# Altium footprint library JACK.PcbLib: 9 footprints
Each footprint in its own frame and in the unit in brackets; x right, y up, seen from the top. Pads: shape width x height; smd on the part's side, far side on the other; paste and mask are expansions set on the pad; w line width, h text height; cw(c..) or ccw(c..) is an arc to the next point about the centre after c.
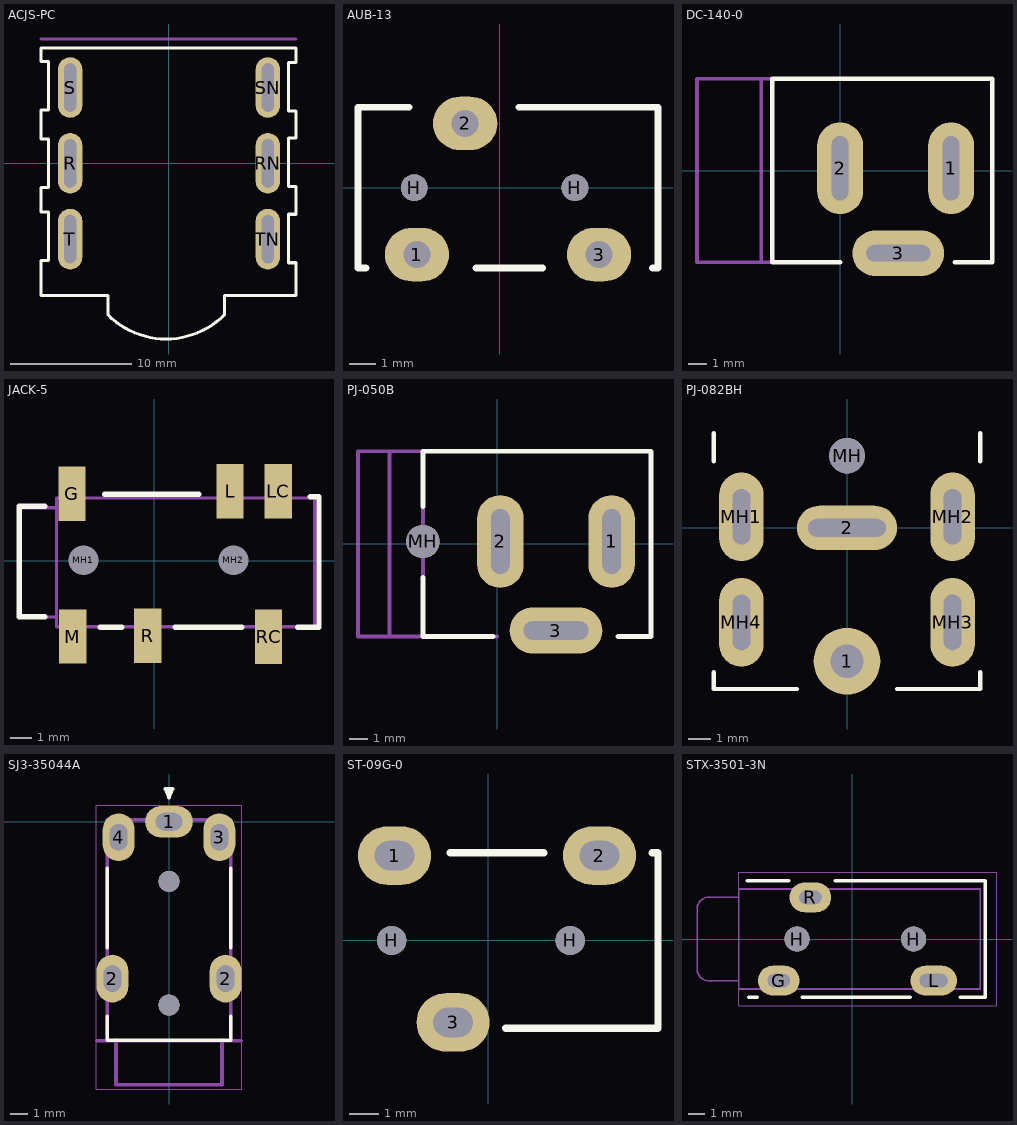
[diagram p0: the footprints below, top view; thin cyan lines are the x and y axes]

## ACJS-PC [mm] "Stereo jack socket 6mm"
height 16
pads (6):
  oval 2x5 hole 1 slot 4 at 90 deg: R(-8.112,-0.002) RN(8.188,-0.002) S(-8.112,6.248) SN(8.188,6.248) T(-8.112,-6.252) TN(8.188,-6.252)
Top Overlay:
  lines w0.254: -10.5,-10.9 -10.5,-8 -9.9,-8 -9.9,-4 -10.5,-4 -10.5,-2 -9.9,-2 -9.9,2 -10.5,2 -10.5,4.4 -9.9,4.4 -9.9,8.4 -10.5,8.4 -10.5,9.5 10.5,9.5 10.5,8.3 9.9,8.3 9.9,4.3 10.5,4.3 10.5,2.1 9.9,2.1 9.9,-1.9 10.5,-1.9 10.5,-4.2 9.9,-4.2 9.9,-8.2 10.5,-8.2 10.5,-10.9 4.6,-10.9 4.6,-12.5 cw(c-0.2,-7.7) -5,-12.5 -5,-10.9 -10.5,-10.9
Mechanical 15:
  lines w0.254: -10.5,10.248 10.5,10.248
3D body "User Library-ACJS-IH.step": height 18.85, standoff -1, extent -9.9,-14.225 10.1,18.625

## AUB-13 [mm] "Stereo jack socket 3,5mm"
height 5.6
pads (5):
  oval 2.4x2 hole 1: 1(-3.1,-2.5) 2(-1.3,2.4) 3(3.7,-2.5)
  round 1 hole 1 unplated: H(-3.2,0) H(2.8,0)
Top Overlay:
  lines w0.254: -5,-3 -5.3,-3 -5.3,3 -3.4,3 ; -0.9,-3 1.6,-3 ; 0.7,3 5.9,3 5.9,-3 5.7,-3
3D body "User Library-1501-03.step": height 4.25, standoff -2.5, extent -6.3,-2.5 4.7,2.5

## DC-140-0 [mm]
pads (3):
  oval 2.5x5 hole 0.9 slot 3.5 at 90 deg: 1(6.05,0.127) 2(0,0.127)
  oval 5x2.5 hole 0.9 slot 3.5 at 0 deg: 3(3.175,-4.5)
Top Overlay:
  lines w0.254: 0,-5 -1.75,-5 -3.7,-5 -3.7,5 -1.75,5 8.3,5 8.3,-5 6.25,-5
Mechanical 15:
  lines w0.2: -4.3,-5 -4.3,0 -4.3,5 ; -1.7,5 -7.8,5 -7.8,-5 0,-5
3D body "User Library-Cliff FC68149 DC PCB Socket.step": height 11, standoff -3.5, extent -7.515,-4.875 6.985,4.875

## JACK-5 [mm] "Stereo + MIC jack socket 3,5mm"
height 5.6
pads (8):
  rect 1.27x2.54 smd: G(-3.832,3.132) L(3.548,3.242) LC(5.798,3.242) M(-3.792,-3.533) R(-0.292,-3.498) RC(5.348,-3.538)
  round 1 hole 1.4 unplated: MH1(-3.302,0.027) MH2(3.698,0.027)
Top Overlay:
  lines w0.254: -5.1,-2.6 -6.3,-2.6 -6.3,2.55 -5.1,2.55 ; -2.5,-3.1 -1.5,-3.1 ; -2.3,3.1 2.1,3.1 ; 1,-3.1 4.1,-3.1 ; 6.7,-3.1 7.7,-3.1 7.7,3 7.3,3
Mechanical 15:
  lines w0.152: 7.418,2.929 -4.554,2.929 -4.554,2.475 ; 7.498,2.929 7.5,2.929 7.5,-3.075 -4.554,-3.075 -4.554,-2.621 ; -4.554,-2.621 -6.302,-2.621 -6.302,2.475 -4.554,2.475 ; -4.554,-2.621 -4.554,2.475
3D body "User Library-3_5mm jack st3500.step": height 5.5, standoff -0.5, extent -9.3,-4.6 7.7,4.4

## PJ-050B [mm] "DC POWER JACK"
height 11
pads (4):
  oval 2.5x5 hole 1 slot 3.5 at 90 deg: 1(6.175,0.127) 2(0.175,0.127)
  oval 5x2.5 hole 1 slot 3.5 at 0 deg: 3(3.175,-4.673)
  round 1.8 hole 1.8 unplated: MH(-4,0.127)
Top Overlay:
  lines w0.254: -4,-1.8 -4,-5 -0.2,-5 ; -4,2 -4,5 -1.75,5 8.3,5 8.3,-5 6.5,-5
Mechanical 15:
  lines w0.2: -5.8,-5 -5.8,5 ; -4,-4.9 -4,5 ; -1.7,5 -7.5,5 -7.5,-5 0,-5
3D body "User Library-Cliff FC68149 DC PCB Socket.step": height 11, standoff -3.5, extent -7.515,-4.875 6.985,4.875

## PJ-082BH [mm] "24V 10A"
height 10
pads (7):
  round 3 hole 1.5: 1(0,-6)
  oval 4.5x2 hole 0.8 slot 3.5 at 0 deg: 2(0,0)
  round 1.6 hole 1.6 unplated: MH(0,3.25)
  oval 2x4 hole 0.8 slot 2.5 at 90 deg: MH1(-4.75,0.5) MH2(4.75,0.5) MH3(4.75,-4.25) MH4(-4.75,-4.25)
Top Overlay:
  lines w0.2: -6,-6.5 -6,-7.25 -2.25,-7.25 ; -6,3 -6,4.25 ; 2.25,-7.25 6,-7.25 6,-6.5 ; 6,3 6,4.25
3D body "pj-082bh.stp": height 10.15, standoff -2.05, extent -5.1,-7 5.1,6.13

## SJ3-35044A [mm]
height 6.3
pads (7):
  oval 2.7x1.8 hole 1 slot 1.5 at 0 deg mask+0.102: 1(0,0)
  oval 1.8x2.7 hole 1 slot 1.5 at 90 deg mask+0.102: 2(-3.2,-8.88) 2(3.2,-8.88) 3(2.85,-0.88) 4(-2.85,-0.88)
  round 1.2 hole 1.2 unplated mask+0: ""(0,-10.38) ""(0,-3.38)
Top Overlay:
  lines w0.2: -3.5,-11 -3.5,-12.38 3.5,-12.38 3.5,-11 ; -3.5,-7.13 -3.5,-2.63 ; 0.1,1.6 -0.2,1.85 ; 3.5,-7.13 3.5,-2.63 ; -0.2,1.85 0.2,1.85 0,1.35 -0.2,1.85
Mechanical 13 (Mech13):
  lines w0.127: -3.5,-12.38 -3,-12.38 3,-12.38 3.5,-12.38
  lines w0.2: -4.1,-12.4 4.1,-12.4 ; -3.5,-12.38 -3.5,0.12 3.5,0.12 3.5,-12.38 ; -3,-12.38 -3,-14.88 3,-14.88 3,-12.38
Mechanical 15 (Mech15):
  lines w0.05: -4.125,-15.13 4.125,-15.13 4.125,0.925 -4.125,0.925 -4.125,-15.13
3D body "step_temp.STEP": height 6.02, standoff -2.58, extent -3.898,-14.9 3.9,0.1

## ST-09G-0 [mm] "Stereo jack socket 3,5mm"
height 5
pads (5):
  oval 2.5x2 hole 1 slot 1.35 at 0 deg: 1(-3.2,2.9) 2(3.8,2.9) 3(-1.2,-2.8)
  round 1 hole 1 unplated: H(-3.3,0) H(2.8,0)
Top Overlay:
  lines w0.254: -1.3,3 -1,3 1.7,3 1.9,3 ; 0.6,-3 5.8,-3 5.8,3 5.6,3

## STX-3501-3N [mm] "Stereo jack socket 3,5mm"
height 5
pads (5):
  oval 2.5x1.8 hole 0.8 slot 1.35 at 0 deg: G(-4.4,-2.5) R(-2.5,2.5)
  round 1.5 hole 1.5 unplated: H(-3.3,0) H(3.7,0)
  oval 2.8x1.8 hole 0.8 slot 1.7 at 0 deg: L(4.9,-2.5)
Top Overlay:
  lines w0.2: -6.3,3.5 -3.8,3.5 ; -6.2,-3.5 -5.7,-3.5 ; -3,-3.5 3.5,-3.5 ; -1,3.5 8,3.5 8,-3.5 6.5,-3.5
Mechanical 13 (Mech13):
  lines w0.1: -6.8,-2.5 -8.5,-2.5 cw(c-8.6,-1.8) -9.3,-1.9 -9.3,1.9 cw(c-8.6,1.8) -8.5,2.5 -6.8,2.5 ; -6.8,-3 7.7,-3 7.7,3 -6.8,3 -6.8,-3
Mechanical 15 (Mech15):
  lines w0.05: -6.8,-4 8.7,-4 8.7,4 -6.8,4 -6.8,-4
3D body: height 5, standoff 0, extent -6.8,-3 7.7,3
3D body: height 5.04, standoff -0.04, extent -9.25,-2.54 -6.75,2.54